# Altium footprint library MLX90614.PcbLib: 1 footprints
Each footprint in its own frame and in the unit in brackets; x right, y up, seen from the top. Pads: shape width x height; smd on the part's side, far side on the other; paste and mask are expansions set on the pad; w line width, h text height; cw(c..) or ccw(c..) is an arc to the next point about the centre after c.
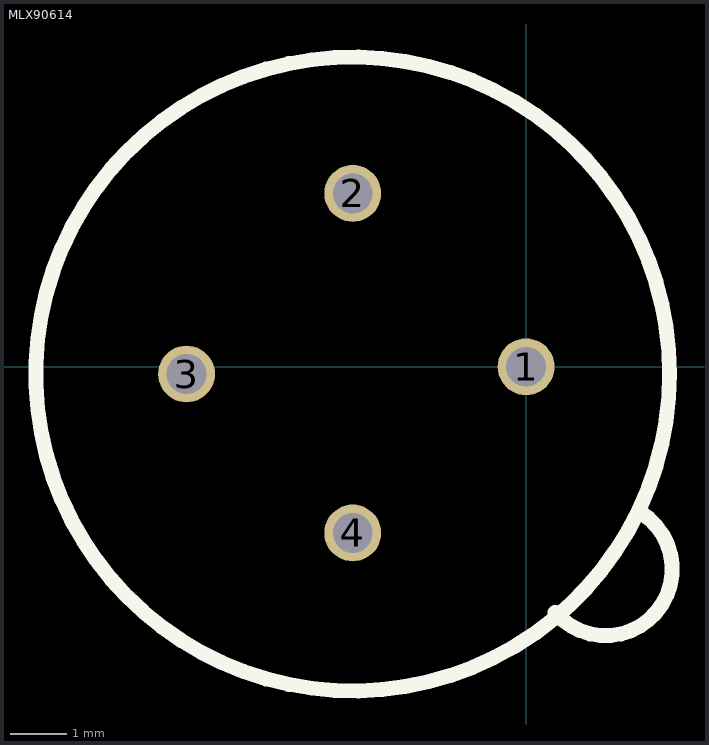
[diagram p0: the footprint, top view; thin cyan lines are the x and y axes]

## MLX90614 [mm]
pads (4):
  round 1 hole 0.7: 1(0,0) 2(-3.048,3.048) 3(-5.969,-0.127) 4(-3.048,-2.921)
Top Overlay:
  circle w0.262: c-3.048,-0.127 r5.571
  lines w0.262: 0.508,-4.318 ccw(c1.397,-3.556) 2.018,-2.563